# Altium footprint library MOLEX_1724480004.PcbLib: 1 footprints
Each footprint in its own frame and in the unit in brackets; x right, y up, seen from the top. Pads: shape width x height; smd on the part's side, far side on the other; paste and mask are expansions set on the pad; w line width, h text height; cw(c..) or ccw(c..) is an arc to the next point about the centre after c.
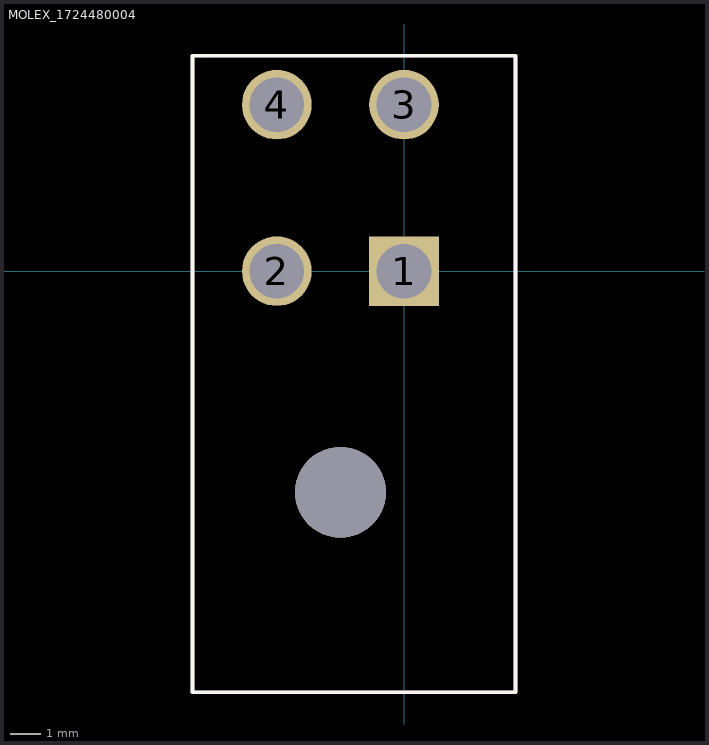
[diagram p0: the footprint, top view; thin cyan lines are the x and y axes]

## MOLEX_1724480004 [mm]
pads (5):
  rect 2.3x2.3 hole 1.8 mask+0.076: 1(0,0)
  round 2.3 hole 1.8 mask+0.076: 2(-4.2,0) 3(0,5.5) 4(-4.2,5.5)
  round 3 hole 3 unplated: ""(-2.1,-7.3)
Top Overlay:
  lines w0.127: -6.985,-13.9 3.683,-13.9 3.683,7.112 -6.985,7.112 -6.985,-13.9
Bottom Solder:
  circle w1.226: c-4.2,5.5 r0.613
  circle w1.226: c-4.2,0 r0.613
  circle w1.226: c0,5.5 r0.613
  region: 1.226,-1.226 -1.226,-1.226 -1.226,1.226 1.226,1.226
Mechanical 13:
  lines w0.127: -6.985,-13.9 3.683,-13.9 3.683,7.112 -6.985,7.112 -6.985,-13.9
3D body "6006.stp": height 11.58, standoff -3.49, extent -7.62,-13.9 3.686,6.035